# Altium integrated library LM2940S-12_NOPB.IntLib: 1 symbol
Pins are listed as number, name and electrical type; pins without a type are passive.

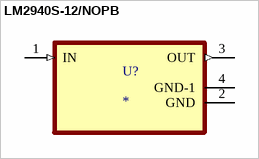
[diagram p0: symbol LM2940S-12/NOPB]

## LM2940S-12/NOPB
designator U?
1-A, 26-V, high-PSRR, low-dropout voltage regulator; MF: Texas Instruments; MP: LM2940S-12/NOPB; Price: None; Package: TO-263-3 Texas Instruments; Check_prices: https://www.snapeda.com/parts/LM2940S-12/NOPB/Texas+Instruments/view-part/?ref=eda; Availability: In Stock; Value: *; SnapEDA_Link: https://www.snapeda.com/parts/LM2940S-12/NOPB/Texas+Instruments/view-part/?ref=snap; Purchase-URL: https://pricing.snapeda.com/search/part/LM2940S-12/NOPB/?ref=eda
footprint TO254P1524X483-4N
pins: 1 IN (in), 2 GND (power), 3 OUT (out), 4 GND-1 (power)